# EAGLE library part FPC-0.5-6P (library Deegou_Connector)
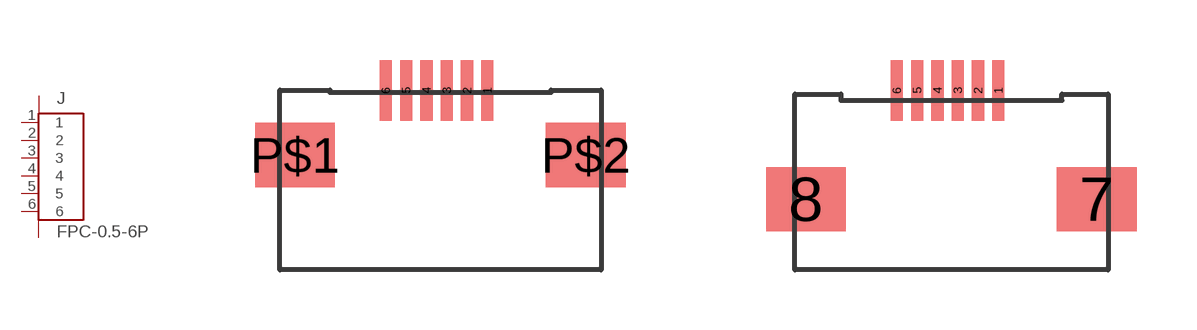
[diagram p47: symbol with the pads of FPC-0.5-6P; footprints FPC-0.5-6P, FPC-0.5-6P_DOWN]

Designator prefix J

## FPC-0.5-6P  [FPC-0.5-6P]
1  1
2  2
3  3
4  4
5  5
6  6
P$1  G1
P$2  G2

## FPC-0.5-6P-DOWN  [FPC-0.5-6P_DOWN]
1  1
2  2
3  3
4  4
5  5
6  6
7  G1
8  G2

## FPC-0.5-6P-UP  [FPC-0.5-6P_UP]
1  1
2  2
3  3
4  4
5  5
6  6
25  G1
26  G2

## FPC-0.5-6PFH19C  [FH19C-6S]
1  1
2  2
3  3
4  4
5  5
6  6
G1  G1
G2  G2

## FPC-0.5-6P-FH34RJ  [FH34RJ-6S]
1  1
2  2
3  3
4  4
5  5
6  6
MH1  G1
MH2  G2

## Footprint FPC-0.5-6P (pad centres in mm)
smd 0.305 x 1.524: 1 1.524,3.602; 2 1.016,3.602; 3 0.508,3.602; 4 0,3.602; 5 -0.508,3.602; 6 -1.016,3.602
smd 2 x 1.6: P$1 -3.286,1.989; P$2 3.986,1.989

## Footprint FPC-0.5-6P_DOWN (pad centres in mm)
smd 0.305 x 1.524: 1 1.524,0.102; 2 1.016,0.102; 3 0.508,0.102; 4 0,0.102; 5 -0.508,0.102; 6 -1.016,0.102
smd 2 x 1.6: 7 3.986,-2.611; 8 -3.286,-2.611

## Footprint FPC-0.5-6P_UP (pad centres in mm)
smd 0.3 x 1.6: 1 -1.25,-0.05; 2 -0.75,-0.05; 3 -0.25,-0.05; 4 0.25,-0.05; 5 0.75,-0.05; 6 1.25,-0.05
smd 1.6 x 1.95: 25 3.4,3.2; 26 -3.4,3.2

## Footprint FH19C-6S (pad centres in mm)
smd 0.3 x 0.8: 1 -1.25,0; 2 -0.75,0; 3 -0.25,0; 4 0.25,0; 5 0.75,0; 6 1.25,0
smd 0.5 x 0.8: G1 -2.25,-2.5; G2 2.25,-2.5

## Footprint FH34RJ-6S (pad centres in mm)
smd 0.3 x 0.8: 1 1.25,0; 2 0.75,0; 3 0.25,0; 4 -0.25,0; 5 -0.75,0; 6 -1.25,0
smd 0.4 x 0.8: MH1 -2.25,-2.5; MH2 2.25,-2.5